# Altium footprint library Sensors Current Shunts.PcbLib: 1 footprints
Each footprint in its own frame and in the unit in brackets; x right, y up, seen from the top. Pads: shape width x height; smd on the part's side, far side on the other; paste and mask are expansions set on the pad; w line width, h text height; cw(c..) or ccw(c..) is an arc to the next point about the centre after c.
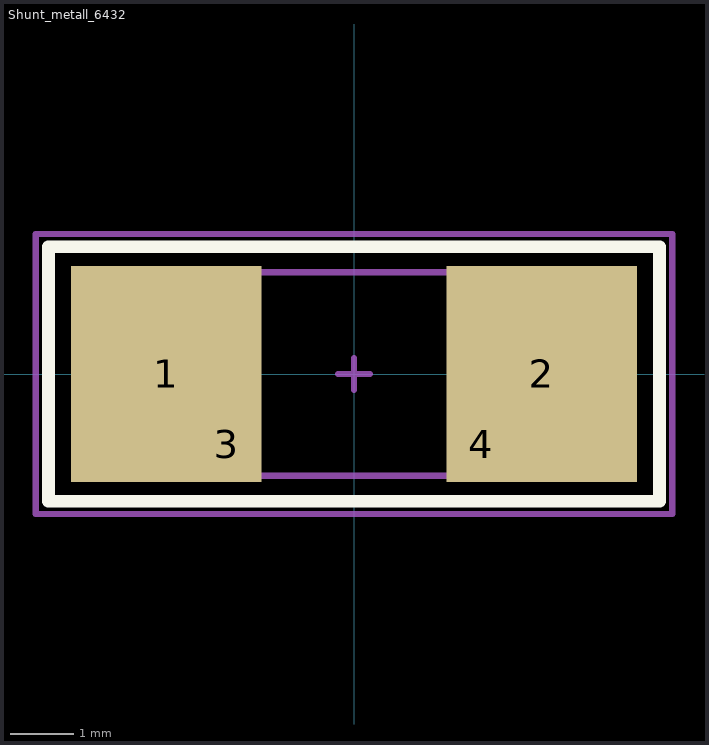
[diagram p0: the footprint, top view; thin cyan lines are the x and y axes]

## Shunt_metall_6432 [mm] "Shunt Resistor, Body 6.30x3.15mm"
height 1.47
pads (4):
  rect 3x3.4 smd: 1(-2.95,0) 2(2.95,0)
  rect 1x1 smd paste-1 mask-1: 3(-2,-1.1) 4(2,-1.1)
Top Overlay:
  lines w0.2: -4.8,-2 -4.8,2 4.8,2 4.8,-2 -4.8,-2
Top Package:
  lines w0.1: -2,-1.6 -2,1.6 ; 2,-1.6 2,1.6 ; -3.2,-1.6 3.2,-1.6 3.2,1.6 -3.2,1.6 -3.2,-1.6
Top Comment:
  text ".Comment" at -2.9,-0.5 h2
Top Designator:
  text ".Designator" at -3.4,-0.5 h2
Top Border:
  lines w0.1: -0.25,0 0.25,0 ; 0,-0.25 0,0.25 ; -5,-2.2 5,-2.2 5,2.2 -5,2.2 -5,-2.2
3D body "Shunt_metall_6432.step": height 0.83, standoff 0, extent -3.175,-1.525 3.175,1.525